# EAGLE library part MIC28512 (library IC & Transistor)
70V, 2A Synchronous Buck Regulator Created by: Wai Weng
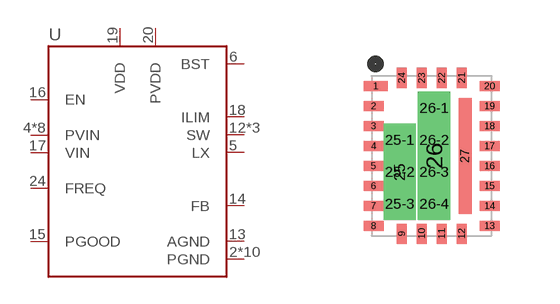
[diagram p64: symbol with the pads of FQFN34-24; footprint FQFN34-24]

Designator prefix U

## MIC28512 (DESC: 70V 2A Buck Regulator; MF: Microchip Technology; MPN: MIC28512-1YFL)  [FQFN34-24]
2  PGND
4  PVIN
5  LX
6  BST
7  PVIN
8  PVIN
9  PVIN
10  PGND
11  PGND
12  SW
13  AGND
14  FB
15  PGOOD
16  EN
17  VIN
18  ILIM
19  VDD
20  PVDD
21  SW
22  PGND
23  PGND
24  FREQ
25  PVIN
25-1  PVIN
25-2  PVIN
25-3  PVIN
26  PGND
26-1  PGND
26-2  PGND
26-3  PGND
26-4  PGND
27  SW

## Footprint FQFN34-24 (pad centres in mm)
24 Lead FQFN (MIC28512) Size: 3x4mm Created by: Wai Weng
smd 0.6 x 0.25: 1 -1.4,1.75
smd 0.5 x 0.25: 2 -1.45,1.25; 3 -1.45,0.75; 4 -1.45,0.25; 5 -1.45,-0.25; 6 -1.45,-0.75; 7 -1.45,-1.25; 8 -1.45,-1.75; 13 1.45,-1.75; 14 1.45,-1.25; 15 1.45,-0.75; 16 1.45,-0.25; 17 1.45,0.25; 18 1.45,0.75; 19 1.45,1.25; 20 1.45,1.75
smd 0.25 x 0.5: 9 -0.75,-1.95; 10 -0.25,-1.95; 11 0.25,-1.95; 12 0.75,-1.95; 21 0.75,1.95; 22 0.25,1.95; 23 -0.25,1.95; 24 -0.75,1.95
smd 0.41 x 2.08: 25 -0.795,-0.41
drill 0.3 pad 0.4 square: 25-1 -0.795,0.4; 25-2 -0.795,-0.4; 25-3 -0.795,-1.2; 26-1 0.065,1.2; 26-2 0.065,0.4; 26-3 0.065,-0.4; 26-4 0.065,-1.2
smd 0.59 x 2.9: 26 0.065,0
smd 0.32 x 2.9: 27 0.84,0